# EAGLE library part M0105UI1 (library Radicon)
HYBRID Preamp M0105UI1
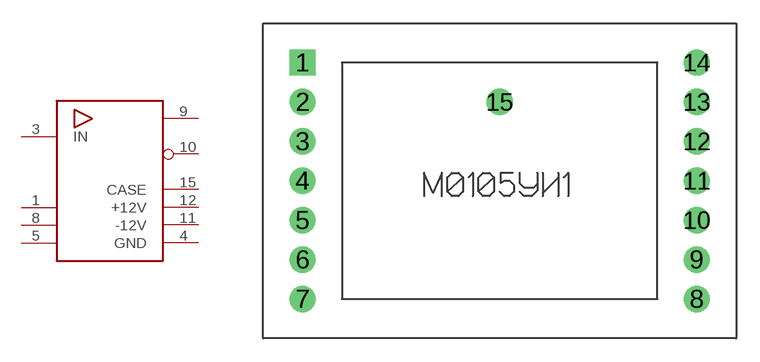
[diagram p6: symbol with the pads of HYBRIDKA; footprint HYBRIDKA]

Designator prefix DA

## M0105UI1  [HYBRIDKA]
1  P$1
3  IN  in
4  GND  pwr
5  P$5
8  P$8
9  P$9  out
10  P$10  out
11  -12V  pwr
12  +12V  pwr
15  CASE  pwr

## Footprint HYBRIDKA (pad centres in mm)
drill 0.8 pad 1.7 square: 1 -12.7,5.08
drill 0.8 pad 1.7: 2 -12.7,2.54; 3 -12.7,0; 4 -12.7,-2.54; 5 -12.7,-5.08; 6 -12.7,-7.62; 7 -12.7,-10.16; 8 12.7,-10.16; 9 12.7,-7.62; 10 12.7,-5.08; 11 12.7,-2.54; 12 12.7,0; 13 12.7,2.54; 14 12.7,5.08; 15 0,2.54